# Altium footprint library balenaFinLib.PcbLib: 75 footprints (part 3 of 5)
Each footprint in its own frame and in the unit in brackets; x right, y up, seen from the top. Pads: shape width x height; smd on the part's side, far side on the other; paste and mask are expansions set on the pad; w line width, h text height; cw(c..) or ccw(c..) is an arc to the next point about the centre after c.
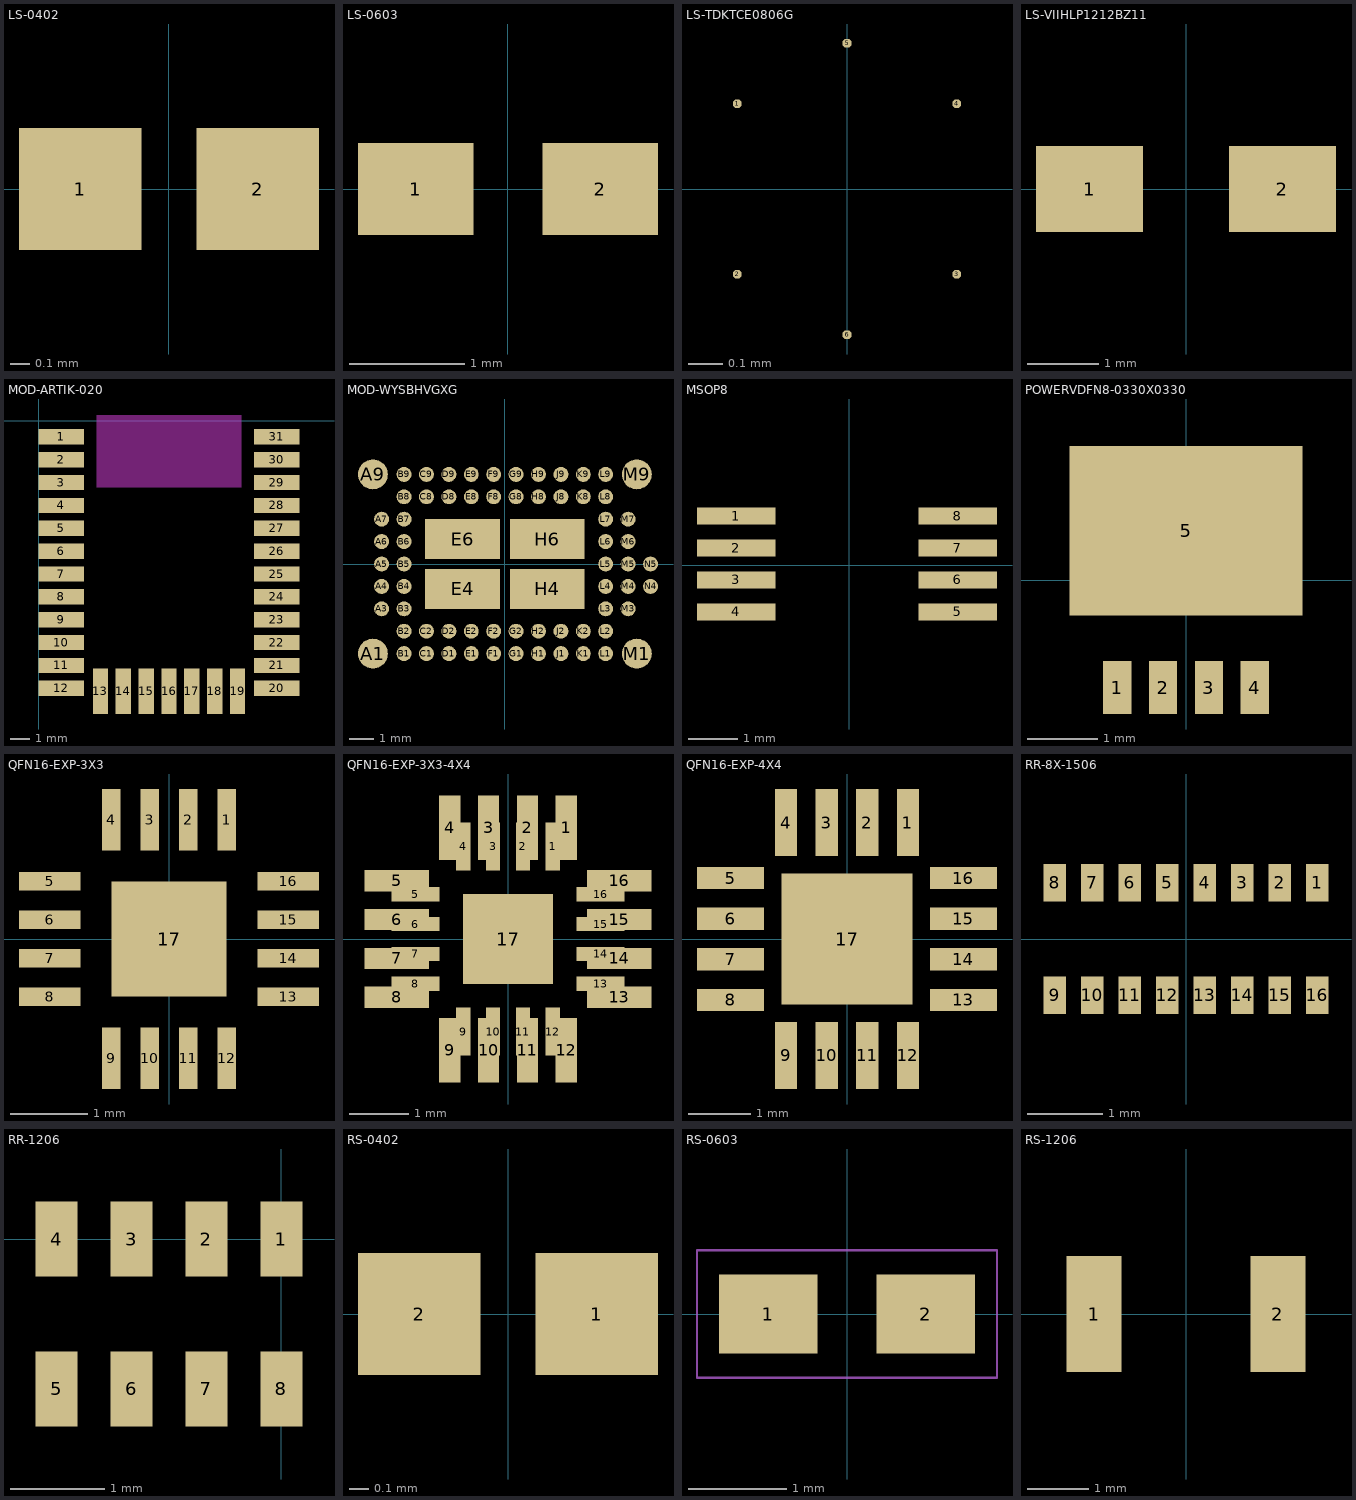
[diagram p2: the footprints below, top view; thin cyan lines are the x and y axes]

## LS-0402 [mm]
pads (2):
  rect 0.62x0.62 smd: 1(-0.45,0) 2(0.45,0)
Mechanical 46:
  text "2" at 0.45,-0.08 h0.2
  text "1" at -0.45,-0.08 h0.2
3D body: height 3.81, standoff 0, extent -1.01,-0.56 1.01,0.56

## LS-0603 [mm]
pads (2):
  rect 1x0.8 smd: 1(-0.8,0) 2(0.8,0)
Mechanical 46:
  text "2" at 0.897,-0.263 h0.2
  text "1" at -0.699,-0.247 h0.2
3D body: height 3.81, standoff 0, extent -1.525,-0.65 1.525,0.65

## LS-TDKTCE0806G [mil]
pads (6):
  oct 1x1 smd: 1(-12.7,9.84) 2(-12.7,-9.84) 3(12.7,-9.84) 4(12.7,9.84) 5(0,16.83) 6(0,-16.83)
Mechanical 46:
  text "2" at -15.85,-13.78 h7.87
  text "1" at -15.85,5.91 h7.87
  text "6" at -3.15,-20.77 h7.87
  text "5" at -3.15,12.89 h7.87
  text "4" at 9.55,5.91 h7.87
  text "3" at 9.55,-13.78 h7.87
3D body: height 150, standoff 0, extent -30.51,-34.45 30.51,34.45

## LS-VIIHLP1212BZ11 [mm]
pads (2):
  rect 1.5x1.2 smd: 1(-1.35,0) 2(1.35,0)
Mechanical 46:
  text "1" at -1.35,-0.08 h0.2
  text "2" at 1.35,-0.08 h0.2
3D body: height 3.81, standoff 0, extent -2.1,-1.7 2.1,1.7

## MOD-ARTIK-020 [mm]
pads (31):
  rect 2.4x0.8 smd: 1(1.2,-0.85) 2(1.2,-2.05) 3(1.2,-3.25) 4(1.2,-4.45) 5(1.2,-5.65) 6(1.2,-6.85) 7(1.2,-8.05) 8(1.2,-9.25) 9(1.2,-10.45) 10(1.2,-11.65) 11(1.2,-12.85) 12(1.2,-14.05) 20(12.5,-14.05) 21(12.5,-12.85) 22(12.5,-11.65) 23(12.5,-10.45) 24(12.5,-9.25) 25(12.5,-8.05) 26(12.5,-6.85) 27(12.5,-5.65) 28(12.5,-4.45) 29(12.5,-3.25) 30(12.5,-2.05) 31(12.5,-0.85)
  rect 0.8x2.4 smd: 13(3.25,-14.2) 14(4.45,-14.2) 15(5.65,-14.2) 16(6.85,-14.2) 17(8.05,-14.2) 18(9.25,-14.2) 19(10.45,-14.2)
Keep-Out Layer:
  rectangle: 3.05,-3.5 10.65,0.3
Mechanical 46:
  text "5" at 1.2,-5.57 h0.2
  text "6" at 1.2,-6.77 h0.2
  text "20" at 12.5,-13.89 h0.2
  text "31" at 12.5,-0.69 h0.2
  text "1" at 1.2,-0.77 h0.2
  text "12" at 1.2,-13.89 h0.2
  text "30" at 12.5,-1.89 h0.2
  text "13" at 3.25,-14.04 h0.2
  text "15" at 5.65,-14.04 h0.2
  text "14" at 4.45,-14.04 h0.2
  text "16" at 6.85,-14.04 h0.2
  text "3" at 1.2,-3.17 h0.2
  text "7" at 1.2,-7.97 h0.2
  text "8" at 1.2,-9.17 h0.2
  text "9" at 1.2,-10.37 h0.2
  text "10" at 1.2,-11.49 h0.2
  text "11" at 1.2,-12.69 h0.2
  text "27" at 12.5,-5.49 h0.2
  text "29" at 12.5,-3.09 h0.2
  text "22" at 12.5,-11.49 h0.2
  text "21" at 12.5,-12.69 h0.2
  text "17" at 8.05,-14.04 h0.2
  text "26" at 12.5,-6.69 h0.2
  text "28" at 12.5,-4.29 h0.2
  text "25" at 12.5,-7.89 h0.2
  text "18" at 9.25,-14.04 h0.2
  text "19" at 10.45,-14.04 h0.2
  text "23" at 12.5,-10.29 h0.2
  text "24" at 12.5,-9.09 h0.2
  text "2" at 1.2,-1.97 h0.2
  text "4" at 1.2,-4.37 h0.2
3D body: height 3.81, standoff 0, extent -0.2,-15.6 13.9,0.2

## MOD-WYSBHVGXG [mm]
pads (70):
  round 1.2 smd: A1(-5.3,-3.6) A9(-5.3,3.6) M1(5.3,-3.6) M9(5.3,3.6)
  round 0.6 smd: A3(-4.95,-1.8) A4(-4.95,-0.9) A5(-4.95,0) A6(-4.95,0.9) A7(-4.95,1.8) B1(-4.05,-3.6) B2(-4.05,-2.7) B3(-4.05,-1.8) B4(-4.05,-0.9) B5(-4.05,0) B6(-4.05,0.9) B7(-4.05,1.8) B8(-4.05,2.7) B9(-4.05,3.6) C1(-3.15,-3.6) C2(-3.15,-2.7) C8(-3.15,2.7) C9(-3.15,3.6) D1(-2.25,-3.6) D2(-2.25,-2.7) D8(-2.25,2.7) D9(-2.25,3.6) E1(-1.35,-3.6) E2(-1.35,-2.7) E8(-1.35,2.7) E9(-1.35,3.6) F1(-0.45,-3.6) F2(-0.45,-2.7) F8(-0.45,2.7) F9(-0.45,3.6) G1(0.45,-3.6) G2(0.45,-2.7) G8(0.45,2.7) G9(0.45,3.6) H1(1.35,-3.6) H2(1.35,-2.7) H8(1.35,2.7) H9(1.35,3.6) J1(2.25,-3.6) J2(2.25,-2.7) J8(2.25,2.7) J9(2.25,3.6) K1(3.15,-3.6) K2(3.15,-2.7) K8(3.15,2.7) K9(3.15,3.6) L1(4.05,-3.6) L2(4.05,-2.7) L3(4.05,-1.8) L4(4.05,-0.9) L5(4.05,0) L6(4.05,0.9) L7(4.05,1.8) L8(4.05,2.7) L9(4.05,3.6) M3(4.95,-1.8) M4(4.95,-0.9) M5(4.95,0) M6(4.95,0.9) M7(4.95,1.8) N4(5.85,-0.9) N5(5.85,0)
  rect 3x1.6 smd: E4(-1.7,-1) E6(-1.7,1) H4(1.7,-1) H6(1.7,1)
Mechanical 46:
  text "D8" at -2.09,2.7 h0.2
  text "E8" at -1.19,2.7 h0.2
  text "B7" at -3.89,1.8 h0.2
  text "B8" at -3.89,2.7 h0.2
  text "G1" at 0.61,-3.6 h0.2
  text "H1" at 1.51,-3.6 h0.2
  text "J1" at 2.41,-3.6 h0.2
  text "K1" at 3.31,-3.6 h0.2
  text "E2" at -1.19,-2.7 h0.2
  text "K2" at 3.31,-2.7 h0.2
  text "F2" at -0.29,-2.7 h0.2
  text "G2" at 0.61,-2.7 h0.2
  text "E1" at -1.19,-3.6 h0.2
  text "L8" at 4.21,2.7 h0.2
  text "L3" at 4.21,-1.8 h0.2
  text "B9" at -3.89,3.6 h0.2
  text "J9" at 2.41,3.6 h0.2
  text "B2" at -3.89,-2.7 h0.2
  text "C9" at -2.99,3.6 h0.2
  text "L9" at 4.21,3.6 h0.2
  text "L1" at 4.21,-3.6 h0.2
  text "C8" at -2.99,2.7 h0.2
  text "C2" at -2.99,-2.7 h0.2
  text "D1" at -2.09,-3.6 h0.2
  text "D2" at -2.09,-2.7 h0.2
  text "C1" at -2.99,-3.6 h0.2
  text "A5" at -4.79,0 h0.2
  text "B4" at -3.89,-0.9 h0.2
  text "B6" at -3.89,0.9 h0.2
  text "A6" at -4.79,0.9 h0.2
  text "B3" at -3.89,-1.8 h0.2
  text "A3" at -4.79,-1.8 h0.2
  text "N4" at 6.01,-0.9 h0.2
  text "A9" at -5.14,3.6 h0.2
  text "M1" at 5.46,-3.6 h0.2
  text "M9" at 5.46,3.6 h0.2
  text "N5" at 6.01,0 h0.2
  text "M5" at 5.11,0 h0.2
  text "M4" at 5.11,-0.9 h0.2
  text "M3" at 5.11,-1.8 h0.2
  text "E9" at -1.19,3.6 h0.2
  text "G8" at 0.61,2.7 h0.2
  text "H9" at 1.51,3.6 h0.2
  text "B5" at -3.89,0 h0.2
  text "F8" at -0.29,2.7 h0.2
  text "E6" at -1.54,1 h0.2
  text "H6" at 1.86,1 h0.2
  text "H4" at 1.86,-1 h0.2
  text "E4" at -1.54,-1 h0.2
  text "A1" at -5.14,-3.6 h0.2
  text "F1" at -0.29,-3.6 h0.2
  text "A4" at -4.79,-0.9 h0.2
  text "M6" at 5.11,0.9 h0.2
  text "B1" at -3.89,-3.6 h0.2
  text "D9" at -2.09,3.6 h0.2
  text "A7" at -4.79,1.8 h0.2
  text "M7" at 5.11,1.8 h0.2
  text "L7" at 4.21,1.8 h0.2
  text "L6" at 4.21,0.9 h0.2
  text "L5" at 4.21,0 h0.2
  text "L4" at 4.21,-0.9 h0.2
  text "K9" at 3.31,3.6 h0.2
  text "K8" at 3.31,2.7 h0.2
  text "J8" at 2.41,2.7 h0.2
  text "H8" at 1.51,2.7 h0.2
  text "G9" at 0.61,3.6 h0.2
  text "F9" at -0.29,3.6 h0.2
  text "J2" at 2.41,-2.7 h0.2
  text "L2" at 4.21,-2.7 h0.2
  text "H2" at 1.51,-2.7 h0.2
3D body: height 3.81, standoff 0, extent -6.5,-4.65 6.5,4.65

## MSOP8 [mm]
pads (8):
  rect 1.6x0.35 smd: 1(-2.3,1) 2(-2.3,0.35) 3(-2.3,-0.3) 4(-2.3,-0.95) 5(2.2,-0.95) 6(2.2,-0.3) 7(2.2,0.35) 8(2.2,1)
Mechanical 46:
  text "4" at -2.232,-1.209 h0.2
  text "5" at 2.28,-1.205 h0.2
  text "8" at 2.298,0.763 h0.2
  text "7" at 2.287,0.098 h0.2
  text "6" at 2.283,-0.541 h0.2
  text "3" at -2.221,-0.548 h0.2
  text "2" at -2.214,0.095 h0.2
  text "1" at -2.196,0.766 h0.2
3D body: height 3.81, standoff 0, extent -3.15,-1.5 3.05,1.55

## POWERVDFN8-0330X0330 [mm]
pads (5):
  rect 0.4x0.75 smd mask+0.13: 1(-0.975,-1.525) 2(-0.325,-1.525) 3(0.325,-1.525) 4(0.975,-1.525)
  rect 3.31x2.4 smd: 5(0,0.7)
Mechanical 46:
  text "1" at -0.975,-1.605 h0.2
  text "2" at -0.325,-1.605 h0.2
  text "3" at 0.325,-1.605 h0.2
  text "5" at 0,0.62 h0.2
  text "4" at 0.975,-1.605 h0.2
3D body: height 3.81, standoff 0, extent -1.96,-2.1 1.96,2.1

## QFN16-EXP-3X3 [mm]
pads (17):
  rect 0.24x0.8 smd: 1(0.75,1.55) 2(0.25,1.55) 3(-0.25,1.55) 4(-0.75,1.55) 9(-0.75,-1.55) 10(-0.25,-1.55) 11(0.25,-1.55) 12(0.75,-1.55)
  rect 0.8x0.24 smd: 5(-1.55,0.75) 6(-1.55,0.25) 7(-1.55,-0.25) 8(-1.55,-0.75) 13(1.55,-0.75) 14(1.55,-0.25) 15(1.55,0.25) 16(1.55,0.75)
  rect 1.5x1.5 smd: 17(0,0)
Top Paste:
  pour cut-out: 0.75,0.75 0.75,0.15 0.2,0.15 0.2,0.75
  pour cut-out: 0.75,-0.75 0.75,-0.2 0.2,-0.2 0.2,-0.75
  pour cut-out: -0.75,-0.75 -0.75,-0.2 -0.2,-0.2 -0.2,-0.75
  pour cut-out: -0.75,0.75 -0.75,0.15 -0.2,0.15 -0.2,0.75
Mechanical 46:
  text "11" at 0.024,-1.26 h0.2
  text "5" at -1.576,0.654 h0.2
  text "6" at -1.576,0.165 h0.2
  text "17" at -0.106,-0.106 h0.2
  text "16" at 1.365,0.659 h0.2
  text "1" at 0.665,1.607 h0.2
  text "15" at 1.355,0.155 h0.2
  text "14" at 1.379,-0.334 h0.2
  text "8" at -1.571,-0.838 h0.2
  text "7" at -1.576,-0.349 h0.2
  text "10" at -0.475,-1.264 h0.2
  text "13" at 1.355,-0.852 h0.2
  text "12" at 0.533,-1.278 h0.2
  text "3" at -0.315,1.617 h0.2
  text "4" at -0.814,1.603 h0.2
  text "2" at 0.184,1.612 h0.2
  text "9" at -0.818,-1.386 h0.2
3D body "SOT758-1_NXP.step": height 0.99, standoff 0, extent -1.549,-1.549 1.549,1.549

## QFN16-EXP-3X3-4X4 [mm]
pads (33):
  rect 0.24x0.8 smd: 1(0.75,1.55) 2(0.25,1.55) 3(-0.25,1.55) 4(-0.75,1.55) 9(-0.75,-1.55) 10(-0.25,-1.55) 11(0.25,-1.55) 12(0.75,-1.55)
  rect 0.355x1.075 smd: 1(0.975,1.863) 2(0.325,1.863) 3(-0.325,1.863) 4(-0.975,1.863) 9(-0.975,-1.863) 10(-0.325,-1.863) 11(0.325,-1.863) 12(0.975,-1.863)
  rect 1.075x0.355 smd: 5(-1.863,0.975) 6(-1.863,0.325) 7(-1.863,-0.325) 8(-1.863,-0.975) 13(1.863,-0.975) 14(1.863,-0.325) 15(1.863,0.325) 16(1.863,0.975)
  rect 0.8x0.24 smd: 5(-1.55,0.75) 6(-1.55,0.25) 7(-1.55,-0.25) 8(-1.55,-0.75) 13(1.55,-0.75) 14(1.55,-0.25) 15(1.55,0.25) 16(1.55,0.75)
  rect 1.5x1.5 smd: 17(0,0)
Top Paste:
  pour cut-out: 0.75,0.75 0.75,0.15 0.2,0.15 0.2,0.75
  pour cut-out: 0.75,-0.75 0.75,-0.2 0.2,-0.2 0.2,-0.75
  pour cut-out: -0.75,-0.75 -0.75,-0.2 -0.2,-0.2 -0.2,-0.75
  pour cut-out: -0.75,0.75 -0.75,0.15 -0.2,0.15 -0.2,0.75
Top Solder:
  rectangle: -2.5,-1.28 -1.05,1.29
  rectangle: 1.05,-1.29 2.5,1.29
  rectangle: -1.28,1.05 1.29,2.51
  rectangle: -1.27,-2.51 1.29,-1.05
Mechanical 46:
  text "11" at 0.024,-1.26 h0.2
  text "5" at -1.576,0.654 h0.2
  text "6" at -1.576,0.165 h0.2
  text "17" at -0.106,-0.106 h0.2
  text "16" at 1.365,0.659 h0.2
  text "1" at 0.665,1.607 h0.2
  text "15" at 1.355,0.155 h0.2
  text "14" at 1.379,-0.334 h0.2
  text "8" at -1.571,-0.838 h0.2
  text "7" at -1.576,-0.349 h0.2
  text "10" at -0.475,-1.264 h0.2
  text "13" at 1.355,-0.852 h0.2
  text "12" at 0.533,-1.278 h0.2
  text "3" at -0.315,1.617 h0.2
  text "4" at -0.814,1.603 h0.2
  text "2" at 0.184,1.612 h0.2
  text "9" at -0.818,-1.386 h0.2
  text "9" at -0.818,-1.386 h0.2
  text "2" at 0.184,1.612 h0.2
  text "4" at -0.814,1.603 h0.2
  text "3" at -0.315,1.617 h0.2
  text "12" at 0.533,-1.278 h0.2
  text "13" at 1.355,-0.852 h0.2
  text "10" at -0.475,-1.264 h0.2
  text "7" at -1.576,-0.349 h0.2
  text "8" at -1.571,-0.838 h0.2
  text "14" at 1.379,-0.334 h0.2
  text "15" at 1.355,0.155 h0.2
  text "1" at 0.665,1.607 h0.2
  text "16" at 1.365,0.659 h0.2
  text "17" at -0.106,-0.106 h0.2
  text "6" at -1.576,0.165 h0.2
  text "5" at -1.576,0.654 h0.2
  text "11" at 0.024,-1.26 h0.2
3D body "SOT758-1_NXP.step": height 0.99, standoff 0, extent -1.549,-1.549 1.549,1.549
3D body "SOT629-1_NXP.step": height 0.99, standoff 0, extent -2.045,-2.045 2.045,2.045

## QFN16-EXP-4X4 [mm]
pads (17):
  rect 0.355x1.075 smd: 1(0.975,1.863) 2(0.325,1.863) 3(-0.325,1.863) 4(-0.975,1.863) 9(-0.975,-1.863) 10(-0.325,-1.863) 11(0.325,-1.863) 12(0.975,-1.863)
  rect 1.075x0.355 smd: 5(-1.863,0.975) 6(-1.863,0.325) 7(-1.863,-0.325) 8(-1.863,-0.975) 13(1.863,-0.975) 14(1.863,-0.325) 15(1.863,0.325) 16(1.863,0.975)
  rect 2.1x2.1 smd: 17(0,0)
Top Paste:
  pour cut-out: 0.75,0.75 0.75,0.15 0.2,0.15 0.2,0.75
  pour cut-out: 0.75,-0.75 0.75,-0.2 0.2,-0.2 0.2,-0.75
  pour cut-out: -0.75,-0.75 -0.75,-0.2 -0.2,-0.2 -0.2,-0.75
  pour cut-out: -0.75,0.75 -0.75,0.15 -0.2,0.15 -0.2,0.75
Mechanical 46:
  text "11" at 0.024,-1.26 h0.2
  text "5" at -1.576,0.654 h0.2
  text "6" at -1.576,0.165 h0.2
  text "17" at -0.106,-0.106 h0.2
  text "16" at 1.365,0.659 h0.2
  text "1" at 0.665,1.607 h0.2
  text "15" at 1.355,0.155 h0.2
  text "14" at 1.379,-0.334 h0.2
  text "8" at -1.571,-0.838 h0.2
  text "7" at -1.576,-0.349 h0.2
  text "10" at -0.475,-1.264 h0.2
  text "13" at 1.355,-0.852 h0.2
  text "12" at 0.533,-1.278 h0.2
  text "3" at -0.315,1.617 h0.2
  text "4" at -0.814,1.603 h0.2
  text "2" at 0.184,1.612 h0.2
  text "9" at -0.818,-1.386 h0.2
3D body "SOT629-1_NXP.step": height 0.99, standoff 0, extent -2.045,-2.045 2.045,2.045

## RR-8X-1506 [mm]
pads (16):
  rect 0.3x0.5 smd: 1(1.75,0.75) 2(1.25,0.75) 3(0.75,0.75) 4(0.25,0.75) 5(-0.25,0.75) 6(-0.75,0.75) 7(-1.25,0.75) 8(-1.75,0.75) 9(-1.75,-0.75) 10(-1.25,-0.75) 11(-0.75,-0.75) 12(-0.25,-0.75) 13(0.25,-0.75) 14(0.75,-0.75) 15(1.25,-0.75) 16(1.75,-0.75)
Mechanical 46:
  text "16" at 1.59,-0.75 h0.2
  text "15" at 1.09,-0.75 h0.2
  text "12" at -0.41,-0.75 h0.2
  text "14" at 0.59,-0.75 h0.2
  text "13" at 0.09,-0.75 h0.2
  text "11" at -0.91,-0.75 h0.2
  text "10" at -1.41,-0.75 h0.2
  text "9" at -1.83,-0.75 h0.2
  text "1" at 1.67,0.75 h0.2
  text "6" at -0.83,0.75 h0.2
  text "5" at -0.33,0.75 h0.2
  text "3" at 0.67,0.75 h0.2
  text "2" at 1.17,0.75 h0.2
  text "7" at -1.33,0.75 h0.2
  text "8" at -1.83,0.75 h0.2
  text "4" at 0.17,0.75 h0.2
3D body: height 3.81, standoff 0, extent -2.15,-1.25 2.15,1.25

## RR-1206 [mm]
pads (8):
  rect 0.45x0.8 smd: 1(0,0) 2(-0.8,0) 3(-1.6,0) 4(-2.4,0) 5(-2.4,-1.6) 6(-1.6,-1.6) 7(-0.8,-1.6) 8(0,-1.6)
Mechanical 46:
  text "3" at -1.857,-0.105 h0.2
  text "7" at -1.014,-1.69 h0.2
  text "8" at -0.214,-1.69 h0.2
  text "5" at -2.614,-1.69 h0.2
  text "4" at -2.665,-0.092 h0.2
  text "2" at -1.047,-0.109 h0.2
  text "1" at -0.252,-0.111 h0.2
  text "6" at -1.814,-1.69 h0.2
3D body: height 3.81, standoff 0, extent -3.2,-2.3 0.8,0.7

## RS-0402 [mm]
pads (2):
  rect 0.62x0.62 smd: 1(0.45,0) 2(-0.45,0)
Mechanical 46:
  text "2" at -0.53,0 h0.2
  text "1" at 0.37,0 h0.2
3D body: height 3.81, standoff 0, extent -1.01,-0.56 1.01,0.56

## RS-0603 [mm]
pads (2):
  rect 1x0.8 smd: 1(-0.8,0) 2(0.8,0)
Mechanical 7:
  lines w0.025: -1.525,-0.65 1.525,-0.65 1.525,0.65 -1.525,0.65 -1.525,-0.65
Mechanical 46:
  text "2" at 0.738,-0.113 h0.2
  text "1" at -0.857,-0.093 h0.2

## RS-1206 [mm]
pads (2):
  rect 0.9x1.9 smd: 1(-1.5,0) 2(1.5,0)
Mechanical 46:
  text "1" at -1.4,-0.26 h0.2
  text "2" at 1.597,-0.257 h0.2
3D body: height 3.81, standoff 0, extent -2.25,-1.15 2.25,1.15